# Altium schematic symbol library Pulser Driver4,2.SCHLIB: 51 symbols
Pins are listed as number, name and electrical type; pins without a type are passive.

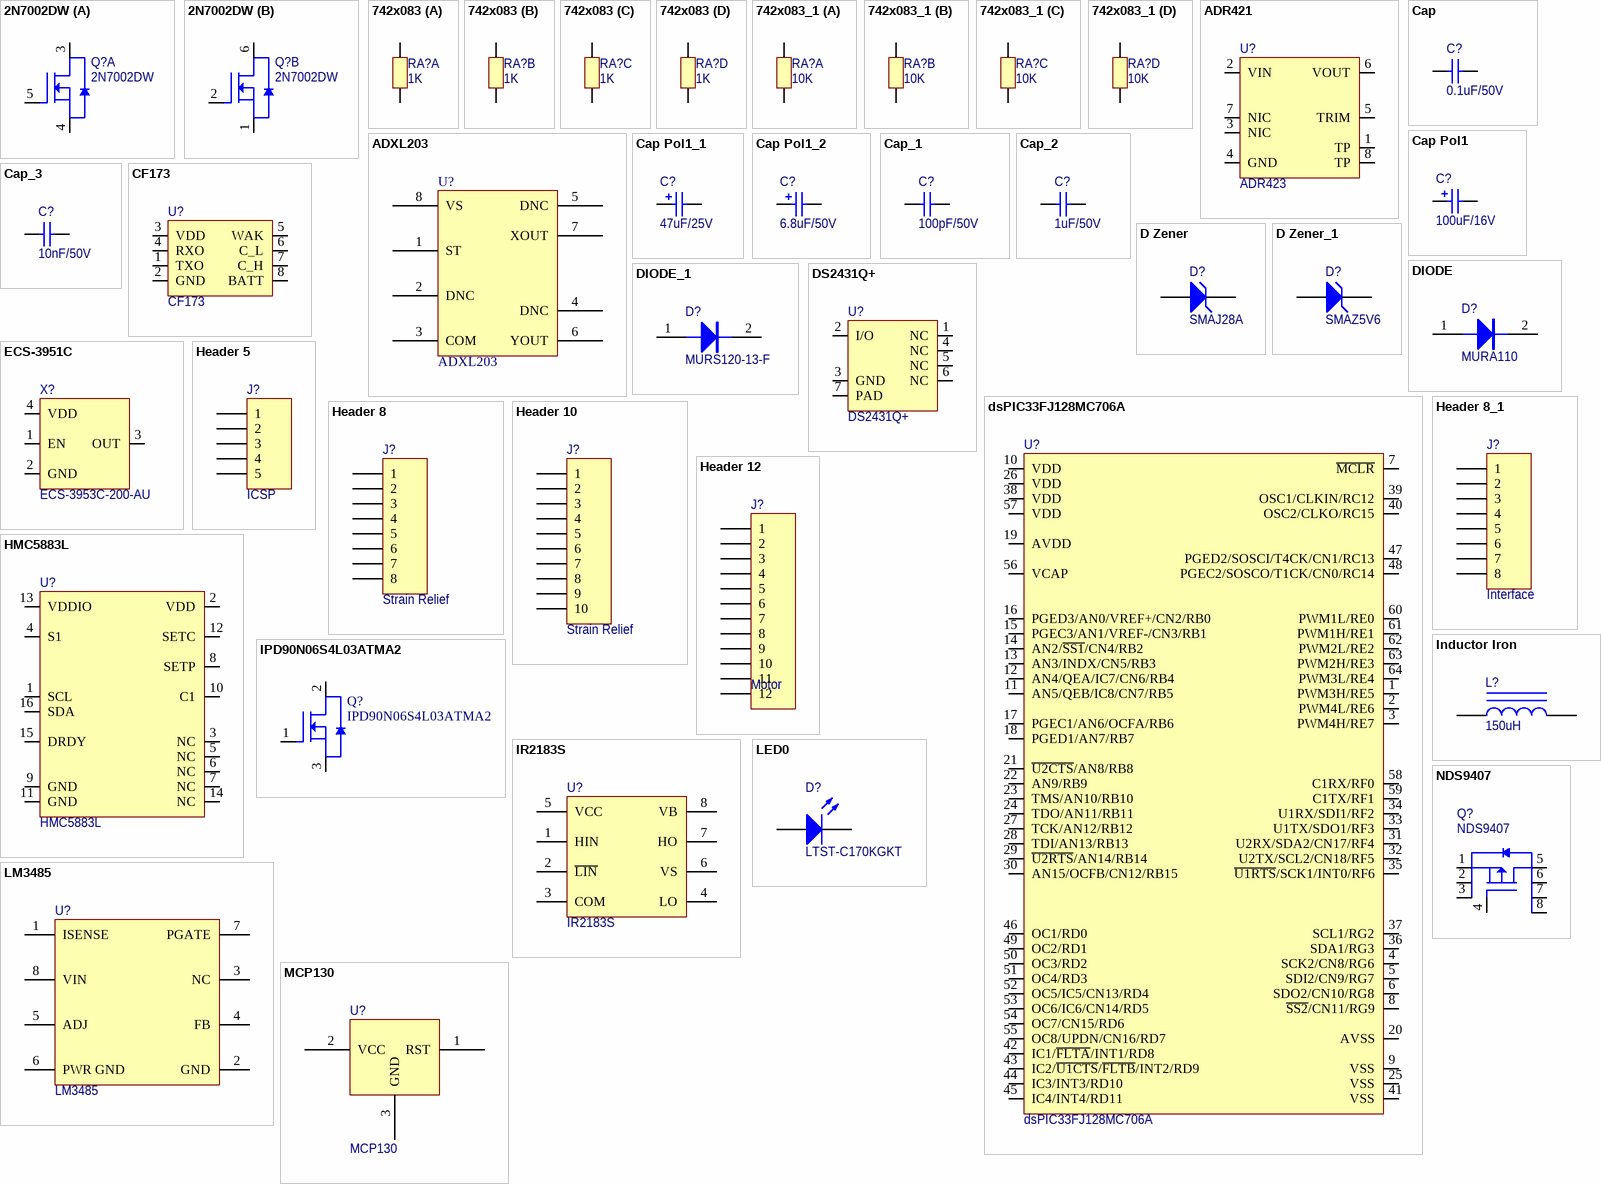
[diagram p0: symbols 2N7002DW to NDS9407]

## 2N7002DW
designator Q?
2N7002DW Dual N-Channel FET SC-70-6; Manufacturer: Fairchild Semiconductor; Vendor PN: 2N7002DWCT-ND; Vendor: Digi-Key; Vertex PN: 6500000; Manu PN: 2N7002DW
footprint DCK-6
part A pins: 3 D1, 4 S1, 5 G1
part B pins: 1 S2, 2 G2, 6 D2

## 742x083
designator RA?, comment 1K
742 4-Isolated 50V (0603x4) Resistor Array; Manufacturer: CTS Resistor Products; Vendor PN: 742C083102JPCT-ND; Vendor: Digi-Key; Manu PN: 742C083102JP; Vertex PN: 6108102
footprint 742x083 (742x083 4-Isolated Resistor Array)
part A pins: 1, 2
part B pins: 3, 4
part C pins: 5, 6
part D pins: 7, 8

## 742x083_1
designator RA?, comment 10K
742 4-Isolated 50V (0603x4) Resistor Array; Manufacturer: CTS Resistor Products; Vendor PN: 742C083103JPCT-ND; Vendor: Digi-Key; Manu PN: 742C083103JP; Vertex PN: 6108103
footprint 742x083 (742x083 4-Isolated Resistor Array)
part A pins: 1, 2
part B pins: 3, 4
part C pins: 5, 6
part D pins: 7, 8

## ADR421
designator U?, comment ADR423
ADR423 3.0V Voltage Reference; Manufacturer: Analog Devices Inc; Vendor PN: ADR423ARZ-ND; Vendor: Digi-Key; Manu PN: ADR423ARZ; Vertex PN: 6400002
footprint D8
pins: 1 TP, 2 VIN, 3 NIC, 4 GND, 5 TRIM, 6 VOUT, 7 NIC, 8 TP

## ADXL203
designator U?
Accelerometer X, Y Axis ±1.7g 0.5Hz ~ 2.5kHz 8-LCC (5x5); Manufacturer: Analog Devices; Vendor: Digi-Key; Vendor PN: 505-ADXL203CE-ND; Manu PN: ADXL203CE; Min Supply Voltage: 3V; Max Supply Voltage: 6V; Nominal Supply Current: 700uA; Output Type: Analog; Sensitivity: 1000mV/g; Axis: X, Y; Supply Current: 700nA; Operating Supply Voltage: 3.3V; Frequency: 5.5kHz; Vertex PN: 6400034; RoHS: Yes; Category: Accelerometers; Stock: 3152; Pricing: 1=46.15, 10=38.461, 25=34.0652, 100=32.9664 (USD); Case/Package: LCC; Pins: 8; Contact Plating: Gold; Min Operating Temperature: -40°C; Max Operating Temperature: 125°C; Package Quantity: 95; -3db Bandwidth: 2.5kHz; Packaging: Rail/Tube; Operating Supply Current: 700uA; Series: iMEMS®; Bandwidth: 0.5Hz; Output: ANALOG; Length: 5mm; Width: 5mm; Height: 1.98mm; Depth: 5mm; Radiation Hardening: No; Lead Free: Contains Lead; Reach SVHC Compliant: No; RoHS Compliant: Yes; ComponentLink1URL: https://datasheet.ciiva.com/15111/getdatasheetpartid-245778-15111937.pdf?src-supplier=Verical; ComponentLink1Description: https://datasheet.ciiva.com/15111/getdatasheetpartid-245778-15111937.pdf?src-supplier=Verical; ComponentLink2URL: https://datasheet.ciiva.com/14094/adxl103-203-eng-tds-14094650.pdf?src-supplier=Distrelec; ComponentLink2Description: https://datasheet.ciiva.com/14094/adxl103-203-eng-tds-14094650.pdf?src-supplier=Distrelec; ComponentLink3URL: https://datasheet.ciiva.com/19472/1805927-19472587.pdf?src-supplier=Jameco; ComponentLink3Description: https://datasheet.ciiva.com/19472/1805927-19472587.pdf?src-supplier=Jameco; ComponentLink4URL: https://datasheet.ciiva.com/1165/1793797-1165449.pdf?src-supplier=Element14; ComponentLink4Description: https://datasheet.ciiva.com/1165/1793797-1165449.pdf?src-supplier=Element14; ComponentLink5URL: https://datasheet.ciiva.com/1577/1595878-1577547.pdf?src-supplier=Farnell; ComponentLink5Description: https://datasheet.ciiva.com/1577/1595878-1577547.pdf?src-supplier=Farnell; ComponentLink6URL: https://datasheet.ciiva.com/1165/1793797-1165448.pdf?src-supplier=Element14; ComponentLink6Description: https://datasheet.ciiva.com/1165/1793797-1165448.pdf?src-supplier=Element14; ComponentLink7URL: https://datasheet.ciiva.com/3271/adxl103-203-3271593.pdf?src-supplier=Avnet; ComponentLink7Description: https://datasheet.ciiva.com/3271/adxl103-203-3271593.pdf?src-supplier=Avnet; ComponentLink8URL: https://datasheet.ciiva.com/2809/adxl103-203-2809727.pdf?src-supplier=Digi-Key; ComponentLink8Description: https://datasheet.ciiva.com/2809/adxl103-203-2809727.pdf?src-supplier=Digi-Key
footprint ADXL213
pins: 1 ST, 2 DNC, 3 COM, 4 DNC, 5 DNC, 6 YOUT, 7 XOUT, 8 VS

## Cap
designator C?, comment 0.1uF/50V
Capacitor; Manufacturer: Murata Electronics North America; Vendor: Digi-Key; Vendor PN: 490-1666-1-ND; Manu PN: GRM21BR71H104KA01L; Vertex PN: 6280000
footprint 0805-CR
pins: 1, 2

## Cap Pol1
designator C?, comment 100uF/16V
SMT Tantalum Electrolytic Capacitor; Manufacturer: Kemet; Vendor PN: 399-T500X107K016BG6110TR-ND; Vendor: Digi-Key; Manu PN: T500X107K016BG6110; Vertex PN: 6271006-01
footprint 7343-TANT
pins: 1, 2
1 alternate drawing of the same symbol

## Cap Pol1_1
designator C?, comment 47uF/25V
Polarized Capacitor (Radial); Manufacturer: AVX; Vendor PN: 478-3852-2-ND; Vendor: Digi-Key; Manu PN: THJD476K016RJN; Vertex PN: 6274705-01
footprint 7343-TANT
pins: 1, 2
1 alternate drawing of the same symbol

## Cap Pol1_2
designator C?, comment 6.8uF/50V
Polarized Capacitor (Radial); Manufacturer: AVX; Vendor PN: 478-THJD685K035RJNTR-ND; Vendor: Digi-Key; Manu PN: THJD685K035RJN; Vertex PN: 6276804-01
footprint 7343-TANT
pins: 1, 2
1 alternate drawing of the same symbol

## Cap_1
designator C?, comment 100pF/50V
Capacitor; Manufacturer: Yageo; Vendor: Digi-Key; Vendor PN: 311-1111-1-ND; Manu PN: CC0805JRNP09BN101; Vertex PN: 6281000
footprint VP45-3.2 (Capacitor, Ceramic, Thru-Hole, Dipped Radial; Body 7.8 x 3.2 mm (WxT) Pin Spacing 5.08 mm (typ))
footprint 0805-CR
pins: 1, 2

## Cap_2
designator C?, comment 1uF/50V
Capacitor; Manufacturer: Murata Electronics North America; Vendor: Digi-Key; Vendor PN: 490-4795-1-ND; Manu PN: GCM31MR71H105KA55L; Vertex PN: 6221004
footprint VP45-3.2 (Capacitor, Ceramic, Thru-Hole, Dipped Radial; Body 7.8 x 3.2 mm (WxT) Pin Spacing 5.08 mm (typ))
footprint YC_1206
footprint 1206-CR
pins: 1, 2

## Cap_3
designator C?, comment 10nF/50V
Capacitor; Manufacturer: Murata Electronics North America; Vendor: Digi-Key; Vendor PN: 490-1642-1-ND; Manu PN: GRM2195C1H103JA01D; Vertex PN: 6281002
footprint 0805-CR
pins: 1, 2

## CF173
designator U?
CF173 3.3V CAN Transceiver; Manufacturer: Bosch; Vendor: Future; Vendor PN: CF173-CT-PB; Manu PN: 0272230518; Vertex PN: 6400004
footprint D8
pins: 1 TXO, 2 GND, 3 VDD, 4 RXO, 5 WAK, 6 C_L, 7 C_H, 8 BATT

## D Zener
designator D?, comment SMAJ28A
SMAJ28A 28V TVS; Manufacturer: Diodes Inc; Vendor: Digi-Key; Vendor PN: SMAJ28A-FDICT-ND; Manu PN: SMAJ28A-13-F; Vertex PN: 6600004
footprint SMA
pins: 1 A, 2 K

## D Zener_1
designator D?, comment SMAZ5V6
SMAZ5V6 5.6V Zener Diode; Manufacturer: Diodes Inc; Vendor: Digi-Key; Vendor PN: SMAZ5V6-FDICT-ND; Manu PN: SMAZ5V6-13-F; Vertex PN: 6600005
footprint SMA
pins: 1 A, 2 K

## DIODE
designator D?, comment MURA110
MURA110 Ultrafast Rectifier Diode; Manufacturer: ON Semiconductor; Vendor: Digi-Key; Vendor PN: MURA110T3GOSCT-ND; Manu PN: MURA110T3G; Vertex PN: 6600000
footprint SMA
footprint SMA - LONG PADS
pins: 1 A, 2 K

## DIODE_1
designator D?, comment MURS120-13-F
Diode; Manufacturer: Diodes Inc.; Vendor: Digi-Key; Vendor PN: MURS120-FDITR-ND; Vertex PN: 6600001-01; Manu PN: MURS120-13-F
footprint SMA
footprint SMB-D
pins: 1 A, 2 K

## DS2431Q+
designator U?
DS2431Q+ 1-Wire 1kbit EEPROM; Manufacturer: Maxim Integrated; Manu PN: DS2431Q+T&R; Vendor PN: DS2431Q+T&RCT-ND; Vendor: Digi-Key; Vertex PN: 6400032
footprint TDFN-6 (Maxim 1-Wire TDFN 6-Pin 3mm x 3mm)
pins: 1 NC, 2 I/O, 3 GND, 4 NC, 5 NC, 6 NC, 7 PAD

## dsPIC33FJ128MC706A
designator U?
Manufacturer: Microchip Technology; Vendor PN: DSPIC33FJ128MC706A-I/PT-ND; Vendor: Digi-Key; Manu PN: DSPIC33FJ128MC706A-I/PT; Vertex PN: 6400000
footprint QFP10X10-64 (MICROCHIP)
pins: 1 PWM3H/RE5, 2 PWM4L/RE6, 3 PWM4H/RE7, 4 SCK2/CN8/RG6, 5 SDI2/CN9/RG7, 6 SDO2/CN10/RG8, 7 ~{MCLR}, 8 ~{SS2}/CN11/RG9, 9 VSS, 10 VDD, 11 AN5/QEB/IC8/CN7/RB5, 12 AN4/QEA/IC7/CN6/RB4, 13 AN3/INDX/CN5/RB3, 14 AN2/~{SS1}/CN4/RB2, 15 PGEC3/AN1/VREF-/CN3/RB1, 16 PGED3/AN0/VREF+/CN2/RB0, 17 PGEC1/AN6/OCFA/RB6, 18 PGED1/AN7/RB7, 19 AVDD, 20 AVSS, 21 ~{U2CTS}/AN8/RB8, 22 AN9/RB9, 23 TMS/AN10/RB10, 24 TDO/AN11/RB11, 25 VSS, 26 VDD, 27 TCK/AN12/RB12, 28 TDI/AN13/RB13, 29 ~{U2RTS}/AN14/RB14, 30 AN15/OCFB/CN12/RB15, 31 U2RX/SDA2/CN17/RF4, 32 U2TX/SCL2/CN18/RF5, 33 U1TX/SDO1/RF3, 34 U1RX/SDI1/RF2, 35 ~{U1RTS}/SCK1/INT0/RF6, 36 SDA1/RG3, 37 SCL1/RG2, 38 VDD, 39 OSC1/CLKIN/RC12, 40 OSC2/CLKO/RC15, 41 VSS, 42 IC1/~{FLTA}/INT1/RD8, 43 IC2/~{U1CTS}/~{FLTB}/INT2/RD9, 44 IC3/INT3/RD10, 45 IC4/INT4/RD11, 46 OC1/RD0, 47 PGED2/SOSCI/T4CK/CN1/RC13, 48 PGEC2/SOSCO/T1CK/CN0/RC14, 49 OC2/RD1, 50 OC3/RD2, 51 OC4/RD3, 52 OC5/IC5/CN13/RD4, 53 OC6/IC6/CN14/RD5, 54 OC7/CN15/RD6, 55 OC8/UPDN/CN16/RD7, 56 VCAP, 57 VDD, 58 C1RX/RF0, 59 C1TX/RF1, 60 PWM1L/RE0, 61 PWM1H/RE1, 62 PWM2L/RE2, 63 PWM2H/RE3, 64 PWM3L/RE4

## ECS-3951C
designator X?, comment ECS-3953C-200-AU
ECS-3951C 5V Oscillator; Manufacturer: ECS Inc; Vendor PN: XC1447TR-ND; Manu PN: ECS-3953M-200-AU-TR; Vendor: Digi-Key; Vertex PN: 6400011-01
footprint ECS-3951C
pins: 1 EN, 2 GND, 3 OUT, 4 VDD

## Header 5
designator J?, comment ICSP
Header, 5-Pin
footprint HDR1x5 - 0.050" (Header Pin Connector - 0.050" Pitch)
pins: 1, 2, 3, 4, 5

## Header 8
designator J?, comment Strain Relief
Header, 8-Pin
footprint HDR1X8
footprint HDR1X8
footprint HDR1X8
pins: 1, 2, 3, 4, 5, 6, 7, 8

## Header 8_1
designator J?, comment Interface
Header, 8-Pin
footprint HDR1X8
pins: 1, 2, 3, 4, 5, 6, 7, 8

## Header 10
designator J?, comment Strain Relief
Header, 10-Pin
footprint HDR1X10
pins: 1, 2, 3, 4, 5, 6, 7, 8, 9, 10

## Header 12
designator J?, comment Motor
Header, 10-Pin
footprint HDR1X10
footprint HDR1X12
pins: 1, 2, 3, 4, 5, 6, 7, 8, 9, 10, 11, 12

## HMC5883L
designator U?
HMC5883L 3-Axis Digital Magnetometer; Manufacturer: Honeywell Microelectronics & Precision Sensors; Vendor PN: 342-1082-1-ND; Manu PN: HMC5883L-TR; Vendor: Digi-Key; Vertex PN: 6900002
footprint HMC5883L (HMC5883L 3-Axis Magnetometer)
pins: 1 SCL, 2 VDD, 3 NC, 4 S1, 5 NC, 6 NC, 7 NC, 8 SETP, 9 GND, 10 C1, 11 GND, 12 SETC, 13 VDDIO, 14 NC, 15 DRDY, 16 SDA

## Inductor Iron
designator L?, comment 150uH
Manufacturer: Eaton; Vendor PN: 283-3627-2-ND; Vendor: Digi-Key; Manu PN: DRA74-151-R; Vertex PN: 6300000-01
footprint P1167 - LONG PADS
pins: 1, 2

## IPD90N06S4L03ATMA2
designator Q?
MOSFET N-CH 60V 90A TO252-31; Manufaturer: Infineon; Vendor: Digi-Key; Vendor PN: 448-IPD90N06S4L03ATMA2CT-ND; Manu PN: IPD90N06S4L03ATMA2
footprint TO-252AA (TO-252AA (DPAK))
footprint TO-252
pins: 1 G, 2 D, 3 S

## IR2183S
designator U?
IR2183S Dual High/Low Side FET Driver; Manufacturer: International Rectifier; Vendor PN: IR2183SPBFCT-ND; Manu PN: IR2183STRPBF; Vendor: Digi-Key; Vertex PN: 6400005
footprint D8
pins: 1 HIN, 2 ~{LIN}, 3 COM, 4 LO, 5 VCC, 6 VS, 7 HO, 8 VB

## LED0
designator D?, comment LTST-C170KGKT
Green Clear SMT 0805 LED; Manufacturer: Lite-On Inc; Vendor PN: 160-1414-1-ND; Vendor: Digi-Key; Vertex PN: 6600006; Manu PN: LTST-C170KGKT
footprint 0805-D
pins: 1 A, 2 K

## LM3485
designator U?
LM3485 Hysteretic DC-DC Converter; Manufacturer: Texas Instruments; Vendor: Digi-Key; Manu PN: LM3485MM/NOPB; Vendor PN: LM3485MM/NOPBCT-ND; Vertex PN: 6400006
footprint MSOP8
pins: 1 ISENSE, 2 GND, 3 NC, 4 FB, 5 ADJ, 6 PWR GND, 7 PGATE, 8 VIN

## MCP130
designator U?
MCP130 Open Drain SVS with Internal Pull-up; Manufacturer: Microchip Technology; Manu PN: MCP130T-300I/TT; Vendor: Digi-Key; Vendor PN: MCP130T-300I/TTCT-ND; Vertex PN: 6400009
footprint DGS
pins: 1 RST, 2 VCC, 3 GND

## NDS9407
designator Q?
NDS9407 60V P-FET; Manufacturer: Fairchild Semiconductor; Vendor: Digi-Key; Vendor PN: NDS9407CT-ND; Vertex PN: 6500002; Manu PN: NDS9407
footprint D8 (Footprint not found)
pins: 1 S, 2 S, 3 S, 4 G, 5 D, 6 D, 7 D, 8 D

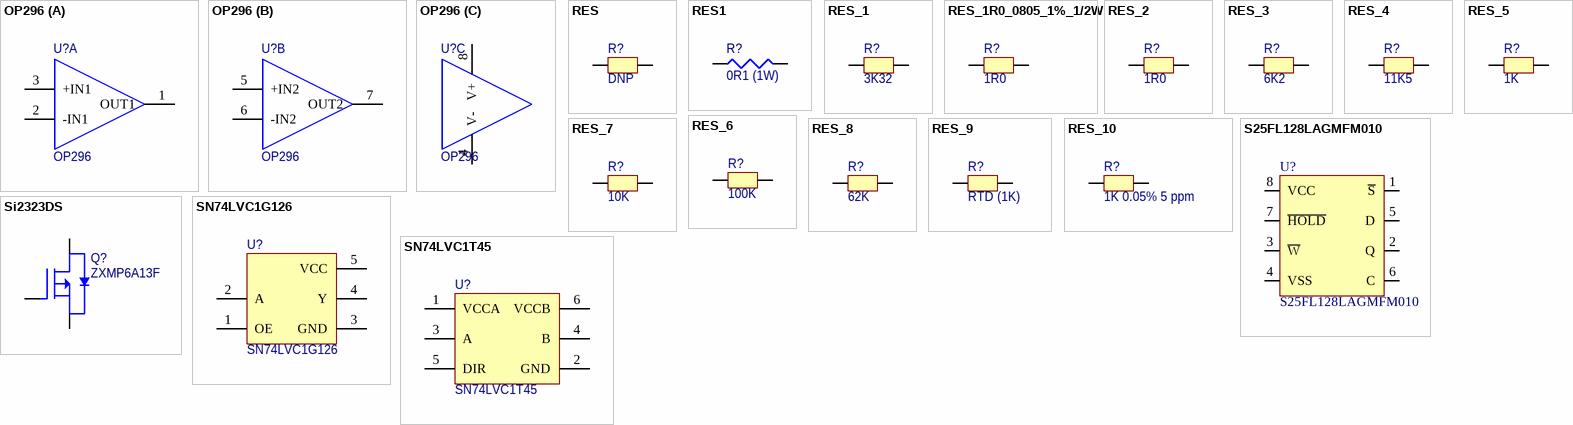
[diagram p1: symbols OP296 to SN74LVC1T45]

## OP296
designator U?
OP296 Micropower Op Amp; Manufacturer: Analog Devices Inc; Vendor: Digi-Key; Vendor PN: OP296GSZ-ND; Manu PN: OP296GSZ; Vertex PN: 6400010
footprint D8
part A pins: 1 OUT1, 2 -IN1, 3 +IN1
part B pins: 5 +IN2, 6 -IN2, 7 OUT2
part C pins: 4 V-, 8 V+

## RES
designator R?, comment DNP
Resistor; Manufacturer: Yageo; Vendor PN: 311-120FRCT-ND; Vendor: Digi-Key; Manu PN: RC1206FR-07120RL; Vertex PN: 6121200
footprint 1206-CR
pins: 1, 2

## RES1
designator R?, comment 0R1 (1W)
RES 0.1 OHM 1% 1W 2512; Manufacturer: Vishay/Dale; Vendor: Digi-Key; Vendor PN: WSLG-.10CT-ND; Manu PN: WSL2512R1000FEA; Vertex PN: 6150001
footprint R0805N
footprint R0603N
footprint R1206N
footprint RCMF
footprint WSL2816 (WSL2816 Current Sense Resistor (2 W))
footprint 2512-CR
pins: 1, 2

## RES_1
designator R?, comment 3K32
Resistor; Manufacturer: Yageo; Vendor PN: 311-3.32KCRCT-ND; Vendor: Digi-Key; Manu PN: RC0805FR-073K32L; Vertex PN: 6183321
footprint 0805-CR
pins: 1, 2

## RES_1R0_0805_1%_1/2W
designator R?, comment 1R0
Res, 1R, 1%, 0.5W, 0805 Rohs Compliant: Yes; Manufacturer: Panasonic; Vendor: Digi-Key; Vendor PN: 10-ERJ-HP6F1R00VCT-ND; Manu PN: ERJ-HP6F1R00V; Vertex PN: 6110001-01; RoHS: No; Category: Chip SMD Resistors; Stock: 5148; Pricing: 1=0.32, 10=0.274, 50=0.1446, 100=0.1073, 500=0.06486, 1000=0.0449 (USD)
footprint 0805
pins: 1, 2

## RES_2
designator R?, comment 1R0
Resistor; Manufacturer: Yageo; Vendor PN: 311-1.00CRCT-ND; Vendor: Digi-Key; Manu PN: RC0805FR-071RL; Vertex PN: 6180001
footprint 0805-CR
pins: 1, 2

## RES_3
designator R?, comment 6K2
Resistor; Manufacturer: Yageo; Vendor PN: 311-6.20KCRCT-ND; Vendor: Digi-Key; Manu PN: RC0805FR-076K2L; Vertex PN: 6186201
footprint 0805-CR
pins: 1, 2

## RES_4
designator R?, comment 11K5
Resistor; Manufacturer: Yageo; Vendor PN: 311-11.5KCRCT-ND; Vendor: Digi-Key; Manu PN: RC0805FR-0711K5L; Vertex PN: 6181152
footprint 0805-CR
pins: 1, 2

## RES_5
designator R?, comment 1K
Resistor; Manufacturer: Yageo; Vendor PN: 311-1.00KCRCT-ND; Vendor: Digi-Key; Manu PN: RC0805FR-071KL; Vertex PN: 6180102
footprint 0805-CR
pins: 1, 2

## RES_6
designator R?, comment 100K
Resistor; Manufacturer: Yageo; Vendor PN: 311-100KCRCT-ND; Vendor: Digi-Key; Manu PN: RC0805FR-07100KL; Vertex PN: 6181003
footprint 0805-CR
pins: 1, 2

## RES_7
designator R?, comment 10K
Resistor; Manufacturer: Yageo; Vendor PN: 311-10.0KCRCT-ND; Vendor: Digi-Key; Manu PN: RC0805FR-0710KL; Vertex PN: 6181002
footprint 0805-CR
pins: 1, 2

## RES_8
designator R?, comment 62K
Resistor; Manufacturer: Yageo; Vendor PN: 311-62.0KCRCT-ND; Vendor: Digi-Key; Manu PN: RC0805FR-0762KL; Vertex PN: 6186202
footprint 0805-CR
pins: 1, 2

## RES_9
designator R?, comment RTD (1K)
Resistor Thermal Device; Manufacturer: TE Connectivity; Vendor PN: 223-1812-ND; Vendor: Digikey; Manu PN: NB-PTCO-164; Vertex PN: 6900005-02; Supplier 1: Digikey; Supplier Part Number 1: 223-1812-ND
footprint F2020 (F2020 Resistive Temperature Detector)
pins: 1, 2

## RES_10
designator R?, comment 1K 0.05% 5 ppm
Resistor; Manufacturer: Vishay/Thin Film; Vendor PN: PLT0805-1.0KACT-ND; Vendor: Digi-Key; Manu PN: PLT0805Z1001AST5; Vertex PN: 6181102
footprint 0805-CR
pins: 1, 2

## S25FL128LAGMFM010
designator U?
FLASH - NOR Memory IC 128Mbit SPI - Quad I/O, QPI 133 MHz 8-SOIC; Manufacturer: Infineon Technologies; Vendor: Digi-Key; Vendor PN: 448-S25FL128LAGMFM010-ND; Vertex PN: TBD; Manu PN: S25FL128LAGMFM010; ComponentLink1Description: New link; ComponentLink1URL: *; Supplier 1: Digikey; Supplier Part Number 1: 448-S25FL128LAGMFM010-ND
footprint SO8W
pins: 1 ~{S}, 2 Q, 3 ~{W}, 4 VSS, 5 D, 6 C, 7 ~{HOLD}, 8 VCC

## Si2323DS
designator Q?, comment ZXMP6A13F
ZXMP6A13F 60V P-channel FET; Manufacturer: Diodes/Zetex; Manu PN: ZXMP6A13FTA; Vendor: Digi-Key; Vendor PN: ZXMP6A13FCT-ND; Vertex PN: 6500003
footprint DGS
pins: 1 G, 2 S, 3 D

## SN74LVC1G126
designator U?
SN74LVC1G126DBV Tri-state Buffer (Non-Inverting OE); Manufacturer: Texas Instruments; Vendor: Digi-Key; Vendor PN: 296-11605-1-ND; Manu PN: SN74LVC1G126DBVR; Vertex PN: 6400024
footprint DBV-5 (SOT-23-5 Footprint for TI devices)
pins: 1 OE, 2 A, 3 GND, 4 Y, 5 VCC

## SN74LVC1T45
designator U?
SN74LVC1T45 One Channel Level Shifter/Transceiver; Manufacturer: Texas Instruments; Vendor: Digi-Key; Vendor PN: 74LVC1T45W6-7DICT-ND; Manu PN: 74LVC1T45W6-7; Vertex PN: 6400001-01
footprint DCK-6
footprint DBV-6
pins: 1 VCCA, 2 GND, 3 A, 4 B, 5 DIR, 6 VCCB